# Altium footprint library ebox_v3.PcbLib: 28 footprints (part 2 of 2)
Each footprint in its own frame and in the unit in brackets; x right, y up, seen from the top. Pads: shape width x height; smd on the part's side, far side on the other; paste and mask are expansions set on the pad; w line width, h text height; cw(c..) or ccw(c..) is an arc to the next point about the centre after c.
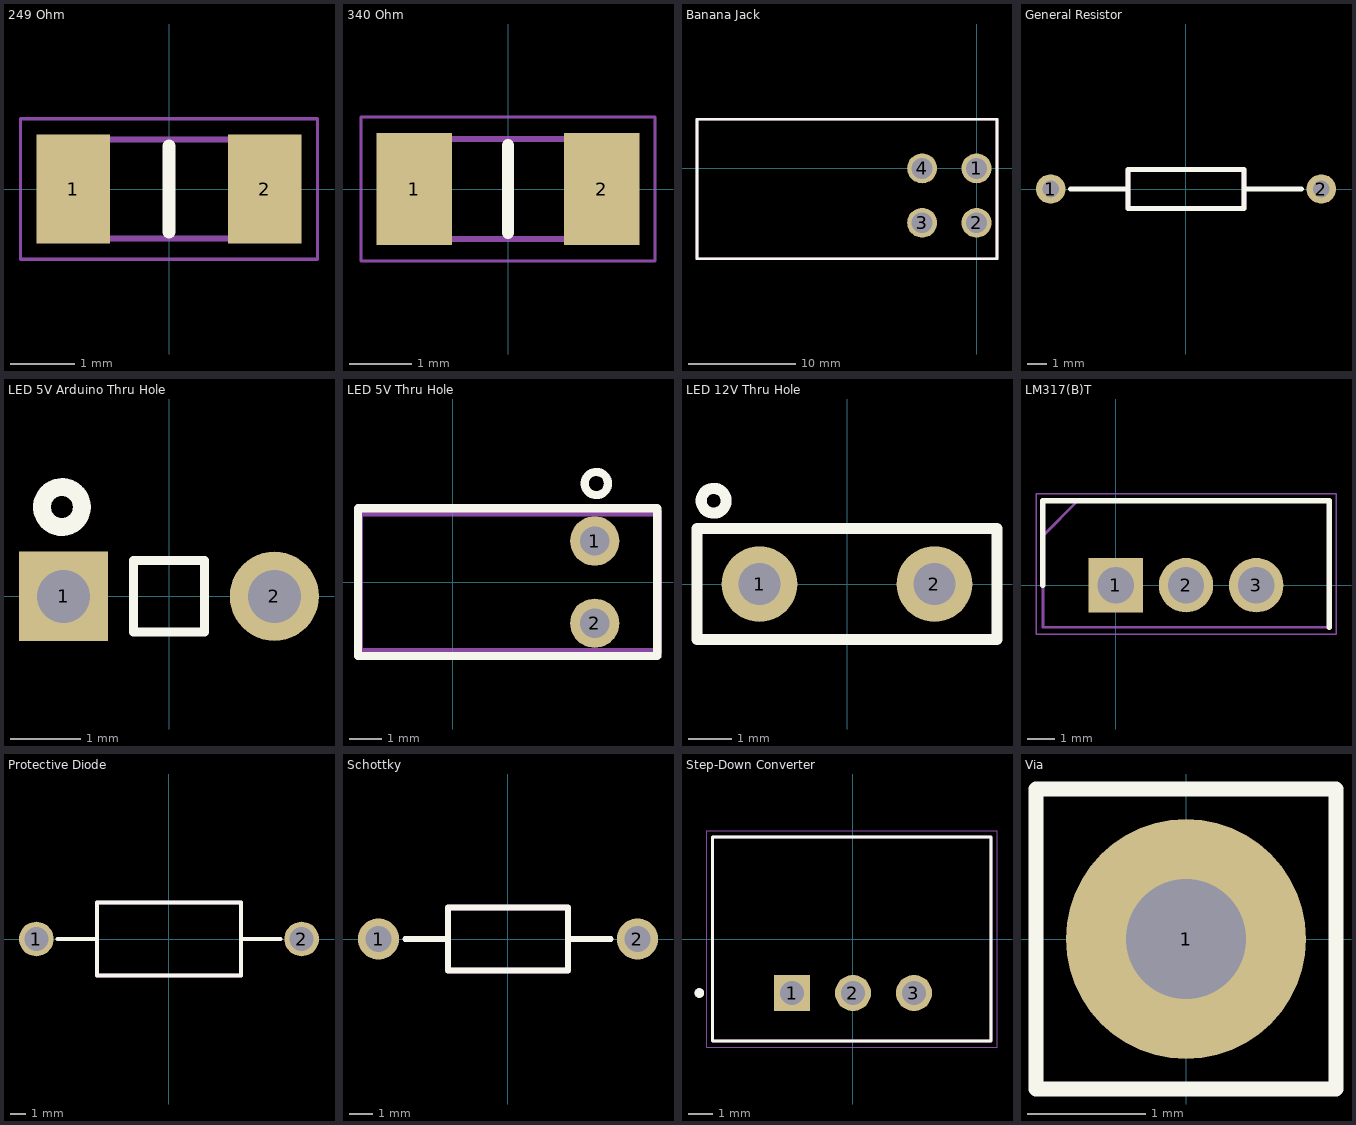
[diagram p1: the footprints below, top view; thin cyan lines are the x and y axes]

## 249 Ohm [mm] "RESC3216X70N"
pads (2):
  rect 1.15x1.7 smd: 1(-1.5,0) 2(1.5,0)
Top Overlay:
  lines w0.2: 0,-0.675 0,0.675
Mechanical 13:
  lines w0.1: -1.6,-0.775 -1.6,0.775 1.6,0.775 1.6,-0.775 -1.6,-0.775
Mechanical 15:
  lines w0.05: -2.325,-1.1 -2.325,1.1 2.325,1.1 2.325,-1.1 -2.325,-1.1
3D body "ERA-8AEB2490V.stp": height 0.7, standoff 0, extent -1.6,-0.775 1.6,0.775

## 340 Ohm [mm] "RESC3216X75N"
pads (2):
  rect 1.2x1.8 smd: 1(-1.5,0) 2(1.5,0)
Top Overlay:
  lines w0.2: 0,-0.7 0,0.7
Mechanical 13:
  lines w0.1: -1.6,-0.8 -1.6,0.8 1.6,0.8 1.6,-0.8 -1.6,-0.8
Mechanical 15:
  lines w0.05: -2.35,-1.15 -2.35,1.15 2.35,1.15 2.35,-1.15 -2.35,-1.15
3D body "CR1206-FX-3400ELF.stp": height 0.75, standoff 0, extent -1.6,-0.8 1.6,0.8

## Banana Jack [mil] "Female"
pads (4):
  round 110 hole 77: 1(0,0) 2(0,-200) 3(-200,-200) 4(-200,0)
Top Overlay:
  lines w10: -1027.36,-331.81 75,-331.81 75,180 -1027.36,180 -1027.36,-331.81
Mechanical 7:
  lines w10: -1027.36,-331.81 75,-331.81 75,180 -1027.36,180 -1027.36,-331.81

## General Resistor [mil]
pads (2):
  round 60 hole 34.17: 1(-275.59,0) 2(275.59,0)
Top Overlay:
  lines w10: -235,0 -118.11,0 ; 118.11,0 235,0 ; -118.11,-39.37 118.11,-39.37 118.11,39.37 -118.11,39.37 -118.11,-39.37
Mechanical 7:
  lines w10: -118.11,-39.37 118.11,-39.37 118.11,39.37 -118.11,39.37 -118.11,-39.37

## LED 5V Arduino Thru Hole [mm]
pads (2):
  rect 1.27x1.27 hole 0.754: 1(-1.5,0)
  round 1.27 hole 0.754: 2(1.5,0)
Top Overlay:
  circle w0.254: c-1.524,1.27 r0.284
  lines w0.127: -0.508,-0.508 0.508,-0.508 0.508,0.508 -0.508,0.508 -0.508,-0.508

## LED 5V Thru Hole [mil] "WP934EW/GD5V"
pads (2):
  round 60 hole 35.43: 1(173,50) 2(173,-50)
Top Overlay:
  circle w10: c175,120 r14.14
  lines w10: -115,-90 -115,90 249.17,90 249.17,-90 -115,-90
Mechanical 7:
  lines w10: -114.17,-85 -114.17,85 250,85 250,-85 -114.17,-85

## LED 12V Thru Hole [mm] "609-1112-130F"
pads (2):
  round 1.727 hole 0.965: 1(-2,0) 2(2,0)
Top Overlay:
  circle w0.254: c-3.048,1.905 r0.284
  lines w0.254: -3.429,-1.27 -3.429,1.27 3.429,1.27 3.429,-1.27 -3.429,-1.27

## LM317(B)T [mm] "TO255P460X1020X2008-3P"
pads (3):
  rect 1.98x1.98 hole 1.32: 1(0,0)
  round 1.98 hole 1.32: 2(2.55,0) 3(5.1,0)
Top Overlay:
  lines w0.2: -2.65,0 -2.65,3.07 7.75,3.07 7.75,-1.53
Mechanical 13:
  lines w0.1: -2.65,1.795 -1.375,3.07 ; -2.65,-1.53 -2.65,3.07 7.75,3.07 7.75,-1.53 -2.65,-1.53
Mechanical 15:
  lines w0.05: -2.9,-1.78 -2.9,3.32 8,3.32 8,-1.78 -2.9,-1.78
3D body "LM317T.stp": height 19.21, standoff -18.2, extent -2.55,-1.53 7.65,3.07

## Protective Diode [mil] "1n5400"
pads (2):
  round 90 hole 62: 1(-344.49,0) 2(344.49,0)
Top Overlay:
  lines w10: -290,0 -187.01,0 ; 187.01,0 290,0 ; -187.01,-94.49 187.01,-94.49 187.01,94.49 -187.01,94.49 -187.01,-94.49
Mechanical 7:
  lines w10: -187.01,-94.49 187.01,-94.49 187.01,94.49 -187.01,94.49 -187.01,-94.49

## Schottky [mil] "STPS1L60RL"
pads (2):
  round 70 hole 44: 1(-220.47,0) 2(220.47,0)
Top Overlay:
  lines w10: -175,0 -102.36,0 ; 102.36,0 175,0 ; -102.36,-53.35 102.36,-53.35 102.36,53.35 -102.36,53.35 -102.36,-53.35
Mechanical 15:
  lines w10: -102.36,-53.35 102.36,-53.35 102.36,53.35 -102.36,53.35 -102.36,-53.35

## Step-Down Converter [mm] "CONV_R-78E5.0-1.0"
pads (3):
  rect 1.508x1.508 hole 1: 1(-2.54,-2.25)
  round 1.508 hole 1: 2(0,-2.25) 3(2.54,-2.25)
Top Overlay:
  circle w0.2: c-6.4,-2.25 r0.1
  lines w0.127: -5.85,-4.25 -5.85,4.25 5.75,4.25 5.75,-4.25 -5.85,-4.25
Mechanical 13:
  circle w0.2: c-6.4,-2.25 r0.1
  lines w0.127: -5.85,-4.25 -5.85,4.25 5.75,4.25 5.75,-4.25 -5.85,-4.25
Mechanical 15:
  lines w0.05: -6.1,-4.5 -6.1,4.5 6,4.5 6,-4.5 -6.1,-4.5

## Via [mil]
pads (1):
  round 80 hole 40: 1(0,0)
Top Overlay:
  lines w5: -50,-50 -50,50 50,50 50,-50 -50,-50